# Altium footprint library CAPC320X250X135L45N.PcbLib: 1 footprints
Each footprint in its own frame and in the unit in brackets; x right, y up, seen from the top. Pads: shape width x height; smd on the part's side, far side on the other; paste and mask are expansions set on the pad; w line width, h text height; cw(c..) or ccw(c..) is an arc to the next point about the centre after c.
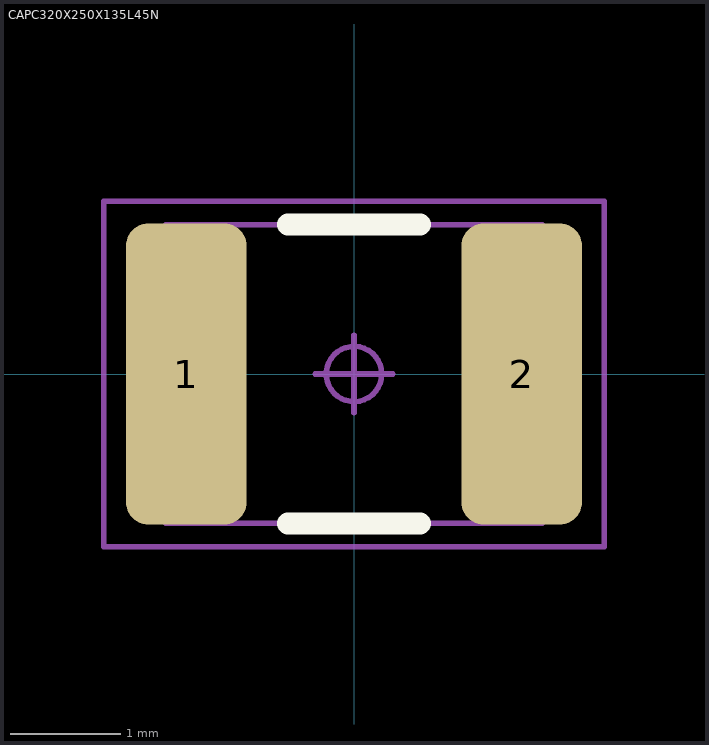
[diagram p0: the footprint, top view; thin cyan lines are the x and y axes]

## CAPC320X250X135L45N [mm] "Capacitor, Chip; 3.20 mm L X 2.50 mm W X 1.35 mm H body"
height 1.35
pads (2):
  rrect37% 1.09x2.72 smd mask+0.05: 1(-1.515,0) 2(1.515,0)
Top Overlay:
  lines w0.2: -0.595,-1.35 0.595,-1.35 ; -0.595,1.35 0.595,1.35
Mechanical 11:
  lines w0.05: -1.7,-1.35 1.7,-1.35 1.7,1.35 -1.7,1.35 -1.7,-1.35
Mechanical 15:
  circle w0.05: c0,0 r0.25
  lines w0.05: -0.35,0 0.35,0 ; 0,-0.35 0,0.35 ; -2.26,-1.56 2.26,-1.56 2.26,1.56 -2.26,1.56 -2.26,-1.56
3D body "CAPC320X250X135L45.STEP": height 1.35, standoff 0, extent -1.7,-1.35 1.7,1.35